# EAGLE library part AVR128DB28-I/SO (library AVR128DB28)
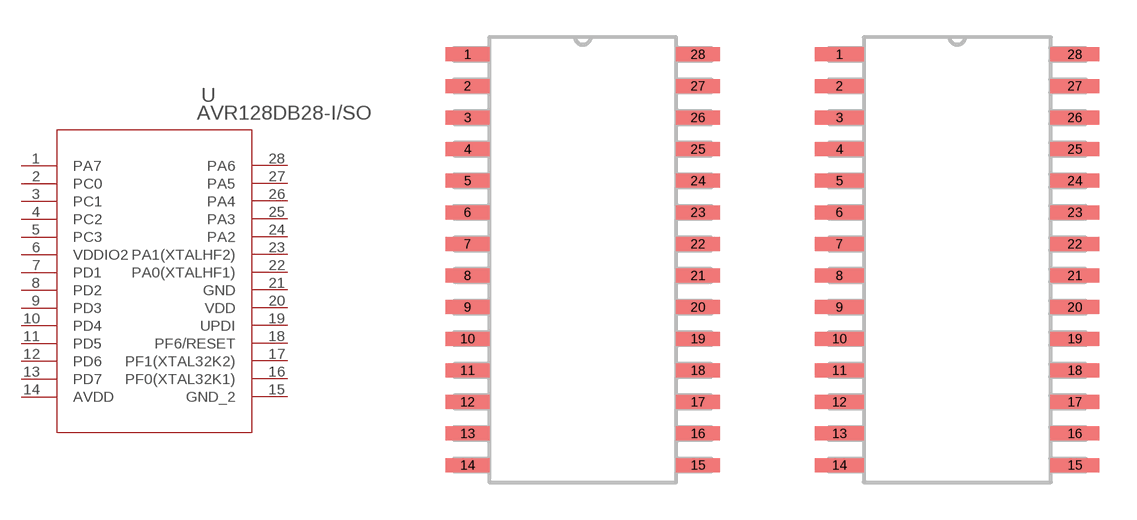
[diagram p0: symbol with the pads of SOIC28_SO_MCH; footprints SOIC28_SO_MCH, SOIC28_SO_MCH-M]

Designator prefix U

## AVR128DB28-I/SO (BUILT_BY: EMA_Cory; COPYRIGHT: Copyright (C) 2018 Accelerated Designs. All rights reserved; DATASHEET: https://ww1.microchip.com/downloads/en/DeviceDoc/AVR128DB28-32-48-64-DataSheet-DS40002247A.pdf; MANUFACTURER_PART_NUMBER: AVR128DB28-I/SO; SOURCELIBRARY: Add_to_database_2021-01-18; VENDOR: Microchip)  [SOIC28_SO_MCH]
1  PA7
2  PC0
3  PC1
4  PC2
5  PC3
6  VDDIO2  pwr
7  PD1
8  PD2
9  PD3
10  PD4
11  PD5
12  PD6
13  PD7
14  AVDD  pwr
15  GND_2  pas
16  PF0(XTAL32K1)
17  PF1(XTAL32K2)
18  PF6/RESET
19  UPDI
20  VDD  pwr
21  GND  pas
22  PA0(XTALHF1)
23  PA1(XTALHF2)
24  PA2
25  PA3
26  PA4
27  PA5
28  PA6

## AVR128DB28-I/SOSOIC28_SO_MCH-M (BUILT_BY: EMA_Cory; COPYRIGHT: Copyright (C) 2018 Accelerated Designs. All rights reserved; DATASHEET: https://ww1.microchip.com/downloads/en/DeviceDoc/AVR128DB28-32-48-64-DataSheet-DS40002247A.pdf; MANUFACTURER_PART_NUMBER: AVR128DB28-I/SO; SOURCELIBRARY: Add_to_database_2021-01-18; VENDOR: Microchip)  [SOIC28_SO_MCH-M]
Pads as for SOIC28_SO_MCH

## AVR128DB28-I/SOSOIC28_SO_MCH-L (BUILT_BY: EMA_Cory; COPYRIGHT: Copyright (C) 2018 Accelerated Designs. All rights reserved; DATASHEET: https://ww1.microchip.com/downloads/en/DeviceDoc/AVR128DB28-32-48-64-DataSheet-DS40002247A.pdf; MANUFACTURER_PART_NUMBER: AVR128DB28-I/SO; SOURCELIBRARY: Add_to_database_2021-01-18; VENDOR: Microchip)  [SOIC28_SO_MCH-L]
Pads as for SOIC28_SO_MCH

## Footprint SOIC28_SO_MCH (pad centres in mm)
smd 1.765 x 0.559: 1 -4.629,8.255; 2 -4.629,6.985; 3 -4.629,5.715; 4 -4.629,4.445; 5 -4.629,3.175; 6 -4.629,1.905; 7 -4.629,0.635; 8 -4.629,-0.635; 9 -4.629,-1.905; 10 -4.629,-3.175; 11 -4.629,-4.445; 12 -4.629,-5.715; 13 -4.629,-6.985; 14 -4.629,-8.255; 15 4.629,-8.255; 16 4.629,-6.985; 17 4.629,-5.715; 18 4.629,-4.445; 19 4.629,-3.175; 20 4.629,-1.905; 21 4.629,-0.635; 22 4.629,0.635; 23 4.629,1.905; 24 4.629,3.175; 25 4.629,4.445; 26 4.629,5.715; 27 4.629,6.985; 28 4.629,8.255

## Footprint SOIC28_SO_MCH-M (pad centres in mm)
smd 1.968 x 0.559: 1 -4.731,8.255; 2 -4.731,6.985; 3 -4.731,5.715; 4 -4.731,4.445; 5 -4.731,3.175; 6 -4.731,1.905; 7 -4.731,0.635; 8 -4.731,-0.635; 9 -4.731,-1.905; 10 -4.731,-3.175; 11 -4.731,-4.445; 12 -4.731,-5.715; 13 -4.731,-6.985; 14 -4.731,-8.255; 15 4.731,-8.255; 16 4.731,-6.985; 17 4.731,-5.715; 18 4.731,-4.445; 19 4.731,-3.175; 20 4.731,-1.905; 21 4.731,-0.635; 22 4.731,0.635; 23 4.731,1.905; 24 4.731,3.175; 25 4.731,4.445; 26 4.731,5.715; 27 4.731,6.985; 28 4.731,8.255

## Footprint SOIC28_SO_MCH-L (pad centres in mm)
smd 1.562 x 0.508: 1 -4.528,8.255; 2 -4.528,6.985; 3 -4.528,5.715; 4 -4.528,4.445; 5 -4.528,3.175; 6 -4.528,1.905; 7 -4.528,0.635; 8 -4.528,-0.635; 9 -4.528,-1.905; 10 -4.528,-3.175; 11 -4.528,-4.445; 12 -4.528,-5.715; 13 -4.528,-6.985; 14 -4.528,-8.255; 15 4.528,-8.255; 16 4.528,-6.985; 17 4.528,-5.715; 18 4.528,-4.445; 19 4.528,-3.175; 20 4.528,-1.905; 21 4.528,-0.635; 22 4.528,0.635; 23 4.528,1.905; 24 4.528,3.175; 25 4.528,4.445; 26 4.528,5.715; 27 4.528,6.985; 28 4.528,8.255